# Altium schematic symbol library Schlib1.SchLib: 1 symbol
Pins are listed as number, name and electrical type; pins without a type are passive.

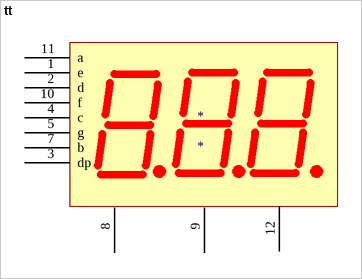
[diagram p0: symbol tt]

## tt
designator *
pins: 1 e, 2 d, 3 dp, 4 c, 5 g, 7 b, 8, 9 13, 10 f, 11 a, 12 14